# Altium footprint library RC.PcbLib: 48 footprints (part 2 of 3)
Each footprint in its own frame and in the unit in brackets; x right, y up, seen from the top. Pads: shape width x height; smd on the part's side, far side on the other; paste and mask are expansions set on the pad; w line width, h text height; cw(c..) or ccw(c..) is an arc to the next point about the centre after c.
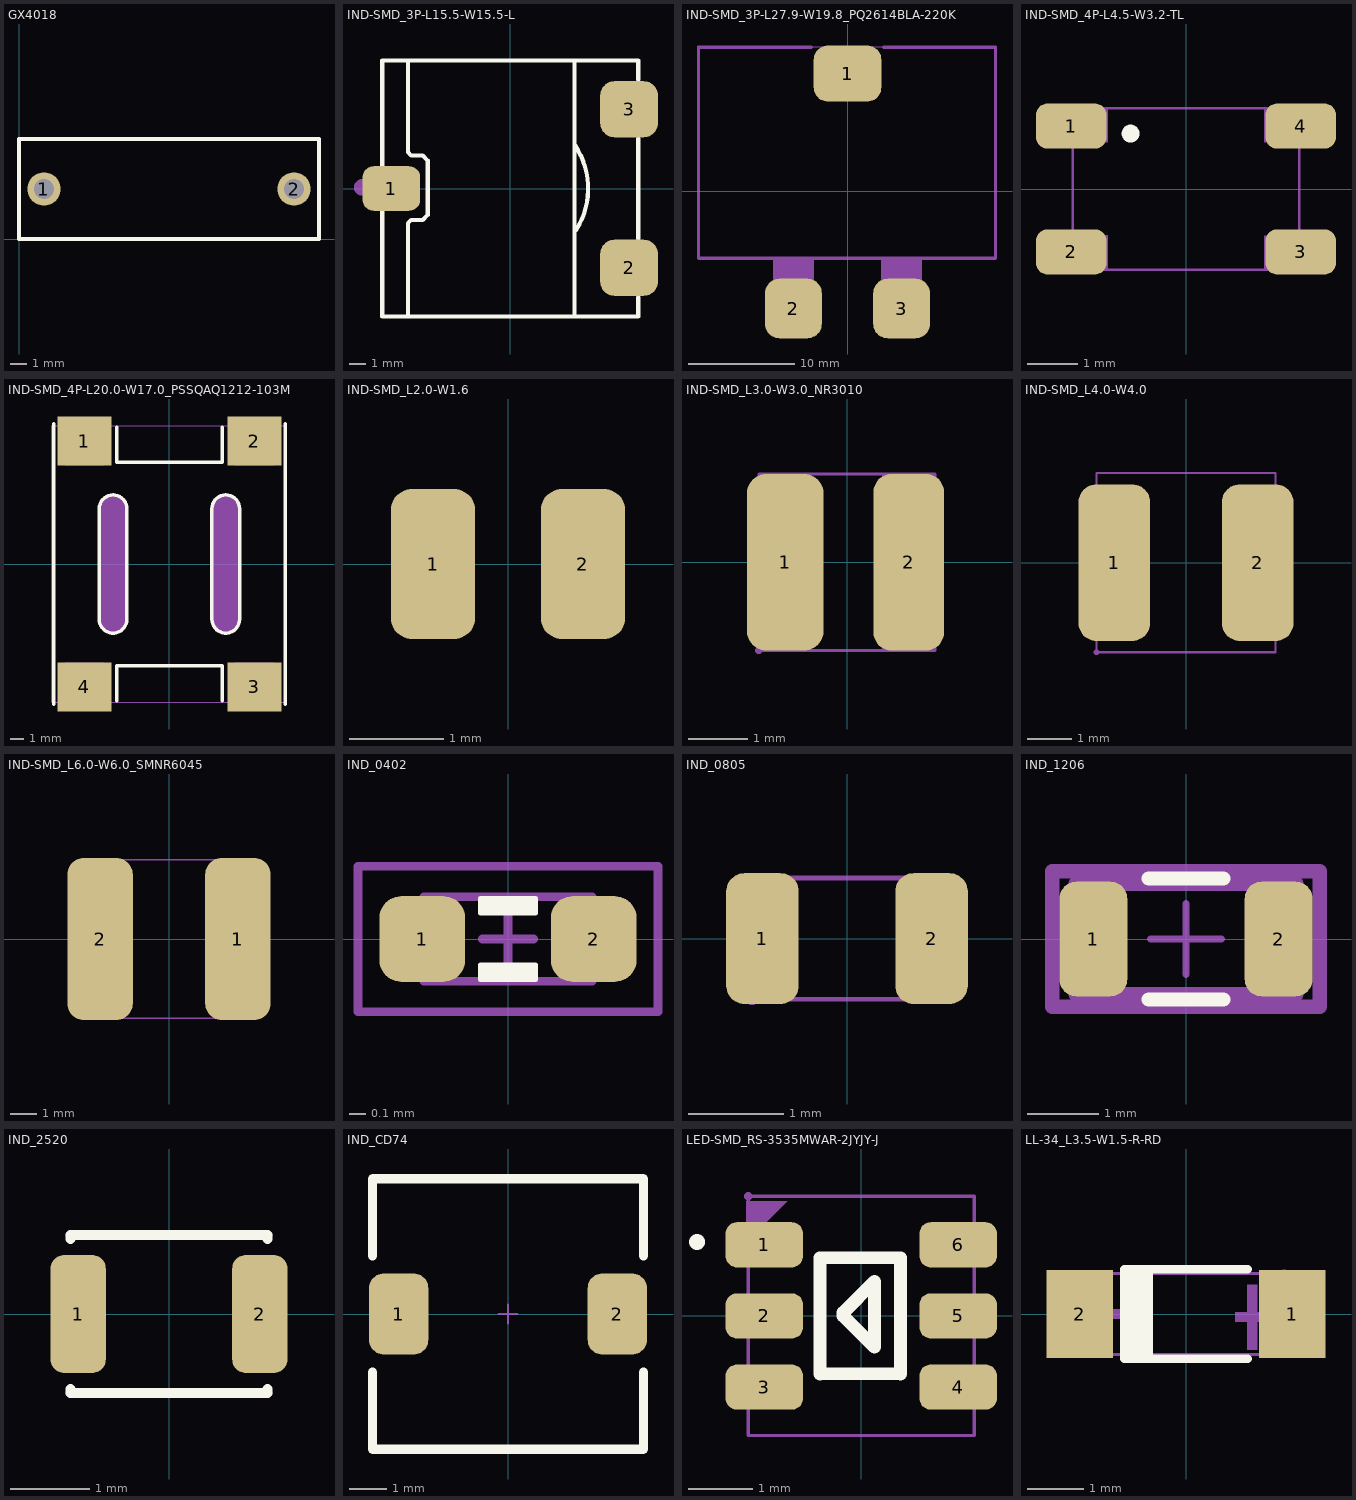
[diagram p1: the footprints below, top view; thin cyan lines are the x and y axes]

## GX4018 [mm] "插件X2安规电容"
pads (2):
  round 2 hole 1.2: 1(1.5,3) 2(16.5,3)
Top Overlay:
  lines w0.254: 0,0 0,6 18,6 18,0 0,0

## IND-SMD_3P-L15.5-W15.5-L [mm]
pads (3):
  rrect50% 3.5x2.7 smd mask+0.051: 1(-7.2,0)
  rrect50% 3.5x3.4 smd mask+0.051: 2(7.2,-4.8) 3(7.2,4.8)
Top Overlay:
  lines w0.254: -7.75,-1.431 -7.75,-7.75 7.75,-7.75 7.75,-6.581 ; -7.75,1.431 -7.75,7.75 7.75,7.75 7.75,6.581 ; -6.2,-7.6 -6.2,-2.1 -6,-1.9 -5.3,-1.9 -5,-1.6 -5,1.7 -5.3,2 -6,2 -6.2,2.2 -6.2,7.7 ; 3.9,-7.7 3.9,7.7 ; 3.925,2.617 cw(c0,0) 4,-2.5 ; 7.75,-3.019 7.75,3.019
Mechanical 6:
  circle w0.5: c-8.97,0.07 r0.25
Mechanical 15:
  region: -7.69,-7.75 -7.69,-7.725 -7.725,-7.69 -7.775,-7.69 -7.81,-7.725 -7.81,-7.75 -7.81,-7.775 -7.775,-7.81 -7.725,-7.81 -7.69,-7.775 -7.69,-7.75
  region: 7.75,6.05 7.75,3.55 6,3.55 6,6.05
  region: 7.75,-3.55 7.75,-6.05 6,-6.05 6,-3.55
  region: -7.75,1.05 -6,1.05 -6,-1.05 -7.75,-1.05
  lines w0.051: -7.75,-7.75 -7.75,7.75 7.75,7.75 7.75,-7.75 -7.75,-7.75

## IND-SMD_3P-L27.9-W19.8_PQ2614BLA-220K [mm]
pads (3):
  rrect50% 6.35x5.28 smd paste+0 mask+0.05: 1(0,11.027)
  rrect50% 5.33x5.59 smd paste+0 mask+0.05: 2(-5.075,-11.027) 3(5.075,-11.027)
Mechanical 2:
  region: -3.4,13.373 -13.873,13.373 -13.873,-6.173 13.773,-6.173 13.773,13.373 3.4,13.373 3.347,13.373 3.273,13.447 3.273,13.553 3.347,13.627 3.4,13.627 13.9,13.627 13.925,13.627 13.972,13.608 14.008,13.572 14.027,13.525 14.027,13.5 14.027,-6.3 14.027,-6.325 14.008,-6.372 13.972,-6.408 13.925,-6.427 13.9,-6.427 -14,-6.427 -14.025,-6.427 -14.072,-6.408 -14.108,-6.372 -14.127,-6.325 -14.127,-6.3 -14.127,13.5 -14.127,13.525 -14.108,13.572 -14.072,13.608 -14.025,13.627 -14,13.627 -3.4,13.627 -3.347,13.627 -3.273,13.553 -3.273,13.447 -3.347,13.373 -3.4,13.373
  region: -13.873,13.5 -13.873,-6.173 13.773,-6.173 13.773,13.373 3.406,13.373 3.354,13.373 3.279,13.447 3.279,13.553 3.354,13.627 3.406,13.627 13.9,13.627 13.925,13.627 13.972,13.608 14.008,13.572 14.027,13.525 14.027,13.5 14.027,-6.3 14.027,-6.325 14.008,-6.372 13.972,-6.408 13.925,-6.427 13.9,-6.427 -14,-6.427 -14.025,-6.427 -14.072,-6.408 -14.108,-6.372 -14.127,-6.325 -14.127,-6.3 -14.127,13.5 -14.127,13.553 -14.053,13.627 -13.947,13.627 -13.873,13.553 -13.873,13.5
Mechanical 6:
  lines w0.051: -13.95,-6.27 13.95,-6.27 13.95,13.53 -13.95,13.53 -13.95,-6.27
Mechanical 7:
  region: 3.175,-11.978 6.975,-11.978 6.975,-6.228 3.175,-6.228
  region: -6.975,-11.978 -3.175,-11.978 -3.175,-6.228 -6.975,-6.228
Mechanical 8:
  region: -13.89,13.53 -13.89,13.505 -13.925,13.47 -13.975,13.47 -14.01,13.505 -14.01,13.53 -14.01,13.555 -13.975,13.59 -13.925,13.59 -13.89,13.555 -13.89,13.53
Mechanical 9:
  region: -2.54,13.139 2.54,13.139 2.54,8.915 -2.54,8.915
  region: -6.975,-9.127 -3.175,-9.127 -3.175,-12.927 -6.975,-12.927
  region: 3.175,-9.127 6.975,-9.127 6.975,-12.927 3.175,-12.927

## IND-SMD_4P-L4.5-W3.2-TL [mm]
pads (4):
  rrect50% 1.4x0.9 smd paste+0.051: 1(-2.28,1.25) 2(-2.28,-1.25) 3(2.28,-1.25) 4(2.28,1.25)
Top Overlay:
  circle w0.254: c-1.1,1.1 r0.05
Mechanical 6:
  lines w0.051: -2.25,-1.6 2.25,-1.6 2.25,1.6 -2.25,1.6 -2.25,-1.6
Mechanical 8:
  region: -2.19,1.6 -2.19,1.575 -2.225,1.54 -2.275,1.54 -2.31,1.575 -2.31,1.6 -2.31,1.625 -2.275,1.66 -2.225,1.66 -2.19,1.625 -2.19,1.6
Mechanical 9:
  region: -1.55,1.575 -1.55,0.925 -2.25,0.925 -2.25,1.575
  region: -1.55,-0.923 -1.55,-1.573 -2.25,-1.573 -2.25,-0.923
  region: 2.25,1.575 2.25,0.925 1.55,0.925 1.55,1.575
  region: 2.25,-0.925 2.25,-1.575 1.55,-1.575 1.55,-0.925

## IND-SMD_4P-L20.0-W17.0_PSSQAQ1212-103M [mm]
pads (4):
  rect 3.92x3.545 smd paste+0 mask+0.051: 1(-6.15,8.897) 2(6.15,8.897) 3(6.15,-8.897) 4(-6.15,-8.897)
Top Overlay:
  lines w0.254: -8.382,-10.16 -8.382,10.16 ; -3.81,-9.906 -3.81,-7.366 3.81,-7.366 3.81,-9.906 ; -3.81,9.906 -3.81,7.366 3.81,7.366 3.81,9.906 ; -3.081,-4.001 cw(c-4.081,-4) -5.08,-4 -5.08,4 cw(c-4.08,4) -3.08,4 -3.08,-4 ; 3.08,4 3.08,-4 ccw(c4.08,-4) 5.08,-4.001 5.08,4 ccw(c4.081,4) 3.081,4.001 ; 8.382,-10.16 8.382,10.16
Mechanical 6:
  region: -5.08,4.064 -5.08,4.164 -5.041,4.36 -4.964,4.545 -4.853,4.712 -4.712,4.853 -4.545,4.964 -4.36,5.041 -4.164,5.08 -4.064,5.08 -3.964,5.08 -3.768,5.041 -3.583,4.964 -3.416,4.853 -3.275,4.712 -3.164,4.545 -3.087,4.36 -3.048,4.164 -3.048,4.064 -3.048,-4.064 -3.048,-4.164 -3.087,-4.36 -3.164,-4.545 -3.275,-4.712 -3.416,-4.853 -3.583,-4.964 -3.768,-5.041 -3.964,-5.08 -4.064,-5.08 -4.164,-5.08 -4.36,-5.041 -4.545,-4.964 -4.712,-4.853 -4.853,-4.712 -4.964,-4.545 -5.041,-4.36 -5.08,-4.164 -5.08,-4.064
  region: 5.08,-4.064 5.08,-4.164 5.041,-4.36 4.964,-4.545 4.853,-4.712 4.712,-4.853 4.545,-4.964 4.36,-5.041 4.164,-5.08 4.064,-5.08 3.964,-5.08 3.768,-5.041 3.583,-4.964 3.416,-4.853 3.275,-4.712 3.164,-4.545 3.087,-4.36 3.048,-4.164 3.048,-4.064 3.048,4.064 3.048,4.164 3.087,4.36 3.164,4.545 3.275,4.712 3.416,4.853 3.583,4.964 3.768,5.041 3.964,5.08 4.064,5.08 4.164,5.08 4.36,5.041 4.545,4.964 4.712,4.853 4.853,4.712 4.964,4.545 5.041,4.36 5.08,4.164 5.08,4.064
Mechanical 15:
  region: -4.75,9.35 -4.75,7.15 -7.55,7.15 -7.55,9.35 -4.75,9.35
  region: 7.55,9.35 7.55,7.15 4.75,7.15 4.75,9.35 7.55,9.35
  region: 7.55,-9.35 7.55,-7.15 4.75,-7.15 4.75,-9.35 7.55,-9.35
  region: -4.75,-9.35 -4.75,-7.15 -7.55,-7.15 -7.55,-9.35 -4.75,-9.35
  region: -8.44,10 -8.44,10.025 -8.475,10.06 -8.525,10.06 -8.56,10.025 -8.56,10 -8.56,9.975 -8.525,9.94 -8.475,9.94 -8.44,9.975 -8.44,10
  lines w0.051: -8.5,-10 8.5,-10 8.5,10 -8.5,10 -8.5,-10

## IND-SMD_L2.0-W1.6 [mm] "L0806"
pads (2):
  rrect50% 0.9x1.6 smd mask+0.051: 1(-0.8,0) 2(0.8,0)
3D body "indrealDIR.step": height 1.09, standoff -0.02, extent -1.01,-0.8 1.01,0.8

## IND-SMD_L3.0-W3.0_NR3010 [mm]
pads (2):
  rrect50% 1.3x3 smd: 1(-1.05,0)
  rrect50% 1.2x3 smd: 2(1.05,0)
Mechanical 15:
  region: 0.6,1.5 1.5,1.5 1.5,-1.5 0.6,-1.5
  region: -1.5,1.5 -0.6,1.5 -0.6,-1.5 -1.5,-1.5
  region: -1.44,-1.5 -1.44,-1.475 -1.475,-1.44 -1.525,-1.44 -1.56,-1.475 -1.56,-1.5 -1.56,-1.525 -1.525,-1.56 -1.475,-1.56 -1.44,-1.525 -1.44,-1.5
  lines w0.051: -1.5,-1.5 -1.5,1.5 1.5,1.5 1.5,-1.5 -1.5,-1.5
3D body "NR3015.step": height 1.5, standoff 0, extent -1.5,-1.5 1.5,1.5

## IND-SMD_L4.0-W4.0 [mm]
pads (2):
  rrect50% 1.6x3.5 smd: 1(-1.6,0) 2(1.6,0)
Mechanical 15:
  region: -1.94,-2 -1.94,-1.975 -1.975,-1.94 -2.025,-1.94 -2.06,-1.975 -2.06,-2 -2.06,-2.025 -2.025,-2.06 -1.975,-2.06 -1.94,-2.025 -1.94,-2
  region: 1.05,1.65 2,1.65 2,-1.65 1.05,-1.65
  region: -2,1.65 -1.05,1.65 -1.05,-1.65 -2,-1.65
  lines w0.051: -2,-2 -2,2 2,2 2,-2 -2,-2
3D body "NR4018.STEP": height 1.8, standoff 0, extent -2,-2 2,2

## IND-SMD_L6.0-W6.0_SMNR6045 [mm]
pads (2):
  rrect50% 2.474x6.12 smd: 1(2.603,0) 2(-2.603,0)
Mechanical 15:
  region: -3,2.45 -1.45,2.45 -1.45,-2.45 -3,-2.45
  region: 1.45,2.451 3,2.451 3,-2.449 1.45,-2.449
  region: 3.06,-2.97 3.06,-2.945 3.025,-2.91 2.975,-2.91 2.94,-2.945 2.94,-2.97 2.94,-2.995 2.975,-3.03 3.025,-3.03 3.06,-2.995 3.06,-2.97
  lines w0.051: -3,-3 -3,3 3,3 3,-3 -3,-3
3D body "WE-LQS_60451.step": height 4.48, standoff -0.02, extent -3,-2.996 3,3.004

## IND_0402 [mil] "IND_0402"
pads (2):
  rrect50% 20x20 smd: 1(-20,0) 2(20,0)
Top Overlay:
  region: -6.5,9.5 6.5,9.5 6.5,6 -6.5,6
  region: 6.5,-9.5 -6.5,-9.5 -6.5,-6 6.5,-6
  lines w1: -6.5,-9.5 -6.5,-6 6.5,-6 6.5,-9.5 -6.5,-9.5 ; -6.5,6 6.5,6 6.5,9.5 -6.5,9.5 -6.5,6
Mechanical 13:
  lines w2: -6,0 6,0 ; 0,-6 0,6 ; -19.69,-9.84 19.68,-9.84 19.68,9.84 -19.69,9.84 -19.69,-9.84
Mechanical 14:
  lines w2: -35,-17 -35,17 35,17 35,-17 -35,-17
3D body "RESC1005X03L.step": height 13.78, standoff 0, extent -19.68,-9.84 19.69,9.85

## IND_0805 [mil]
pads (2):
  rrect50% 30x54.21 smd mask+2: 1(-35,0) 2(35,0)
Mechanical 15:
  region: 39.37,-25.1 39.37,25.1 23.62,25.1 23.62,-25.1
  region: -39.37,-25.1 -39.37,25.1 -23.62,25.1 -23.62,-25.1
  region: -37.01,-25.1 -37.01,-24.12 -38.39,-22.74 -40.35,-22.74 -41.73,-24.12 -41.73,-25.1 -41.73,-26.08 -40.35,-27.46 -38.39,-27.46 -37.01,-26.08 -37.01,-25.1
  lines w2: -39.37,-25.1 39.37,-25.1 39.37,25.1 -39.37,25.1 -39.37,-25.1
3D body "L_0805.stp": height 24.02, standoff 0.39, extent -39.37,-24.61 39.37,24.6

## IND_1206 [mm] "IND_1206"
pads (2):
  rrect50% 0.956x1.61 smd paste+0 mask+0: 1(-1.301,0) 2(1.301,0)
Top Overlay:
  lines w0.2: -0.523,-0.85 0.523,-0.85 ; -0.523,0.85 0.523,0.85
Mechanical 10:
  lines w0.2: -1.879,-0.95 1.879,-0.95 1.879,0.95 -1.879,0.95 -1.879,-0.95
Mechanical 12:
  lines w0.2: -1.55,-0.775 1.55,-0.775 1.55,0.775 -1.55,0.775 -1.55,-0.775
Mechanical 15:
  lines w0.1: -0.5,0 0.5,0 ; 0,-0.5 0,0.5
  lines w0.2: -1.879,-0.95 1.879,-0.95 1.879,0.95 -1.879,0.95 -1.879,-0.95
3D body "User Library-Chip InductorINDC2012X95N.STEP": height 0.92, standoff -0.03, extent -1,-0.6 1,0.6

## IND_2520 [mm] "IND_L_2520"
height 0.8
pads (2):
  rrect50% 0.7x1.5 smd: 1(-1.15,0) 2(1.15,0)
Top Overlay:
  lines w0.127: -1.25,-0.95 -1.25,-1 1.25,-1 1.25,-0.95 ; -1.25,0.95 -1.25,1 1.25,1 1.25,0.95
Mechanical 1:
  lines w0.127: -1.25,-1 1.25,-1 ; -1.25,1 1.25,1
3D body "User Library-Chip InductorINDC2012X95N.STEP": height 0.92, standoff -0.03, extent -1,-0.6 1,0.6

## IND_CD74 [mm] "7*7*4贴片电感"
pads (2):
  rrect50% 1.6x2.2 smd: 1(-2.95,0) 2(2.95,0)
Top Overlay:
  lines w0.254: -3.658,-3.643 -3.658,-1.575 ; -3.658,1.575 -3.658,3.643 ; -3.65,-3.65 3.65,-3.65 3.658,-3.643 3.658,-1.575 ; -3.65,3.65 3.65,3.65 3.658,3.643 3.658,1.575
Mechanical 13:
  lines w0.051: -0.254,0 0.254,0 ; 0,-0.254 0,0.254
3D body "CD74.step": height 4.19, standoff -0.02, extent -3.65,-3.65 3.65,3.65

## LED-SMD_RS-3535MWAR-2JYJY-J [mm]
pads (6):
  rrect50% 1.2x0.7 smd paste+0.051: 1(-1.5,1.1) 2(-1.5,0) 3(-1.5,-1.1) 4(1.5,-1.1) 5(1.5,0) 6(1.5,1.1)
Top Overlay:
  lines w0.2: 0.178,-0.457 -0.279,0 -0.279,0.051 0.203,0.533 0.203,-0.483 ; -0.635,-0.9 -0.635,0.9 0.61,0.9 0.61,-0.9 0.609,-0.889 -0.635,-0.9
  lines w0.249: -2.54,1.143 ccw(c-2.54,1.144) -2.54,1.146
Mechanical 2:
  drawing of 191 lines, arcs and shapes, not listed
Mechanical 6:
  lines w0.051: -1.75,-1.85 1.75,-1.85 1.75,1.85 -1.75,1.85 -1.75,-1.85
Mechanical 8:
  region: -1.69,1.85 -1.69,1.825 -1.725,1.79 -1.775,1.79 -1.81,1.825 -1.81,1.85 -1.81,1.875 -1.775,1.91 -1.725,1.91 -1.69,1.875 -1.69,1.85
Mechanical 9:
  region: 0.95,-1.4 0.95,-0.8 1.75,-0.8 1.75,-1.4
  region: -1.75,-1.4 -1.75,-0.8 -0.95,-0.8 -0.95,-1.4
  region: -1.75,-0.3 -1.75,0.3 -0.95,0.3 -0.95,-0.3
  region: -0.95,1.4 -0.95,0.8 -1.75,0.8 -1.75,1.4
  region: 0.95,-0.3 0.95,0.3 1.75,0.3 1.75,-0.3
  region: 0.95,0.8 0.95,1.4 1.75,1.4 1.75,0.8

## LL-34_L3.5-W1.5-R-RD [mm]
pads (2):
  rect 1.185x1.566 smd: 1(1.893,0) 2(-1.893,0)
Top Overlay:
  region: -1.097,0.776 -0.589,0.776 -0.589,-0.776 -1.097,-0.776
  lines w0.152: 1.097,-0.801 -1.097,-0.801 -1.097,0.801 1.097,0.801
Mechanical 6:
  region: -1.576,-0.087 -1.576,0.087 -0.88,0.087 -0.88,-0.087
  region: 1.576,-0.142 1.576,0.032 0.88,0.032 0.88,-0.142
  region: 1.27,-0.635 1.27,0.525 1.096,0.525 1.096,-0.635
Mechanical 15:
  region: 1.81,0.725 1.81,0.75 1.775,0.785 1.725,0.785 1.69,0.75 1.69,0.725 1.69,0.7 1.725,0.665 1.775,0.665 1.81,0.7 1.81,0.725
  region: -1.75,-0.725 -1.75,0.725 -1.45,0.725 -1.45,-0.725
  region: 1.75,-0.725 1.75,0.725 1.45,0.725 1.45,-0.725
  lines w0.051: -1.75,-0.725 -1.75,0.725 1.75,0.725 1.75,-0.725 -1.75,-0.725